# Altium footprint library Power.PcbLib: 2 footprints
Each footprint in its own frame and in the unit in brackets; x right, y up, seen from the top. Pads: shape width x height; smd on the part's side, far side on the other; paste and mask are expansions set on the pad; w line width, h text height; cw(c..) or ccw(c..) is an arc to the next point about the centre after c.
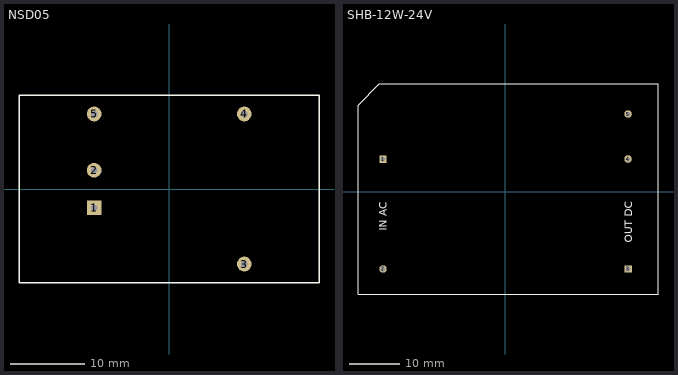
[diagram p0: the footprints below, top view; thin cyan lines are the x and y axes]

## NSD05 [mm] "5W DC-DC Regulated Single Output"
height 8.3
pads (5):
  rect 2x2 hole 0.9: 1(-10.16,-2.54)
  round 2 hole 0.9: 2(-10.16,2.54) 3(10.16,-10.16) 4(10.16,10.16) 5(-10.16,10.16)
Top Overlay:
  lines w0.2: -19.33,-12.7 -18.33,-12.7 ; -20.33,-12.7 -20.33,12.7 20.27,12.7 20.27,-12.7 -20.33,-12.7
3D body: height 8.3, standoff 2.3, extent -17.5,-11 17.5,11
3D body: height 2.3, standoff 1.5, extent -20.325,-12.7 20.275,12.675
3D body: height 0, standoff -3, extent 9.84,9.84 10.48,10.48
3D body: height 1.5, standoff 0, extent 9.52,9.52 10.8,10.8
3D body: height 0, standoff -3, extent 9.84,-10.48 10.48,-9.84
3D body: height 1.5, standoff 0, extent 9.52,-10.8 10.8,-9.52
3D body: height 0, standoff -3, extent -10.48,-2.86 -9.84,-2.22
3D body: height 1.5, standoff 0, extent -10.8,-3.18 -9.52,-1.9
3D body: height 0, standoff -3, extent -10.48,2.22 -9.84,2.86
3D body: height 1.5, standoff 0, extent -10.8,1.9 -9.52,3.18
3D body: height 1.5, standoff 0, extent -10.8,9.52 -9.52,10.8
3D body: height 0, standoff -3, extent -10.48,9.84 -9.84,10.48

## SHB-12W-24V [mm] "AC/DC"
height 29
pads (5):
  rect 1.5x1.5 hole 0.9: 1(-24.5,6.5) 3(24.5,-15.5)
  round 1.5 hole 0.9: 2(-24.5,-15.5) 4(24.5,6.5) 5(24.5,15.5)
Top Overlay:
  lines w0.2: -29.5,-20.5 30.5,-20.5 30.5,21.5 -25.219,21.5 -29.5,17.219 -29.5,-20.5
  text "OUT DC" at 25.3,-10.2 h1.52
  text "IN AC" at -23.7,-7.9 h1.52
3D body: height 0, standoff -3, extent -24.8,6.2 -24.2,6.8
3D body: height 0, standoff -3, extent 24.2,15.2 24.8,15.8
3D body: height 0, standoff -3, extent 24.2,6.2 24.8,6.8
3D body: height 0, standoff -3, extent 24.2,-15.8 24.8,-15.2
3D body: height 0, standoff -3, extent -24.8,-15.8 -24.2,-15.2
3D body: height 28.3, standoff 0, extent -29.5,-20.5 30.5,21.5